# EAGLE library part LTC6244 (library IC)
Linear Technology, Dual 50Mhz, Low Noise, Rail-to-Rail, CMOS Op. Amp.
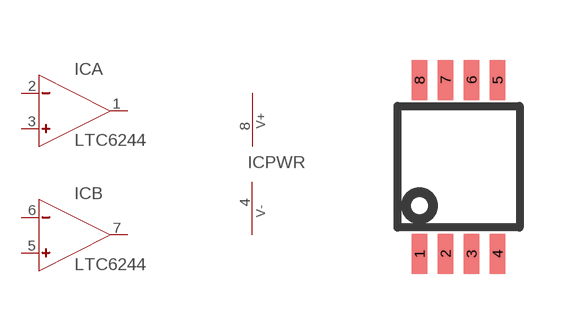
[diagram p156: symbol with the pads of MSOP-8; footprint MSOP-8]

Designator prefix IC; gates A=OPAMP-INV B=OPAMP-INV PWR=PWR_V+_V-

## LTC6244MS8  [MSOP-8]
1  A:OUT  out
2  A:IN-  in
3  A:IN+  in
4  PWR:V-  pwr
5  B:IN+  in
6  B:IN-  in
7  B:OUT  out
8  PWR:V+  pwr

## Footprint MSOP-8 (pad centres in mm)
Linear Tech MSOP-8, National Semiconductor MM, On-Semi Micro8 (DM)
smd 0.38 x 1: 1 -0.975,-2.175; 2 -0.325,-2.175; 3 0.325,-2.175; 4 0.975,-2.175; 5 0.975,2.175; 6 0.325,2.175; 7 -0.325,2.175; 8 -0.975,2.175